# Altium schematic symbol library LED_ORANGE_A1K2-2.A1.Schlib: 1 symbol
Pins are listed as number, name and electrical type; pins without a type are passive.

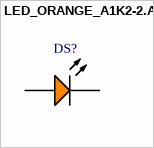
[diagram p0: symbol LED_ORANGE_A1K2-2.A1]

## LED_ORANGE_A1K2-2.A1
designator DS?
pins: 1 K, 2 A